# EAGLE library part STN1170 (library Goodies)
STN1170 44-Lead Plastic Thin Quad Flatpack – 10x10x1 mm Body, 2.00 mm Footprint Multiprotocol OBD to UART interpreter UNTESTED
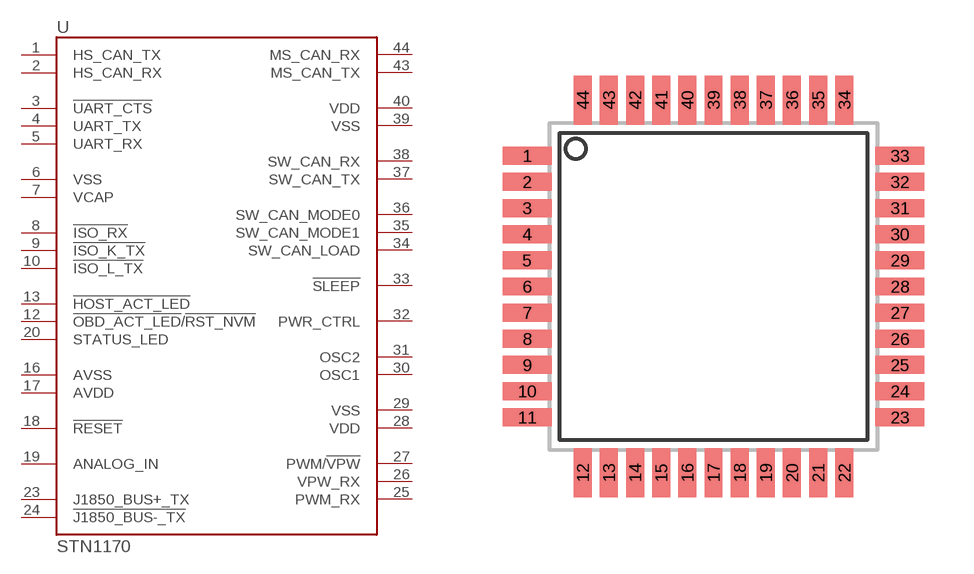
[diagram p3: symbol with the pads of TQFP44; footprint TQFP44]

Designator prefix U

## STN1170  [TQFP44]
1  HS_CAN_TX  in
2  HS_CAN_RX  in
3  !UART_CTS  in
4  UART_TX  out
5  UART_RX  in
6  VSS  pwr
7  VCAP  pwr
8  !ISO_RX  in
9  !ISO_K_TX  out
10  !ISO_L_TX  out
12  !OBD_ACT_LED!/!RST_NVM  out
13  !HOST_ACT_LED  out
16  AVSS  pwr
17  AVDD  pwr
18  !RESET  in
19  ANALOG_IN  in
20  STATUS_LED  out
23  J1850_BUS+_TX  out
24  !J1850_BUS-_TX  out
25  PWM_RX  in
26  VPW_RX  in
27  PWM/!VPW!  out
28  VDD  pwr
29  VSS  pwr
30  OSC1  in
31  OSC2  out
32  PWR_CTRL  out
33  !SLEEP  in
34  SW_CAN_LOAD  out
35  SW_CAN_MODE1  out
36  SW_CAN_MODE0  out
37  SW_CAN_TX  out
38  SW_CAN_RX  in
39  VSS  pwr
40  VDD  pwr
43  MS_CAN_TX  out
44  MS_CAN_RX  in

## Footprint TQFP44 (pad centres in mm)
TQFP44 TQFP (PT) Package 44-Lead Plastic Thin Quad Flatpack 10x10x1 mm Body, 2.00 mm Footprint UNTESTED
smd 1.5 x 0.55: 1 -5.7,4; 2 -5.7,3.2; 3 -5.7,2.4; 4 -5.7,1.6; 5 -5.7,0.8; 6 -5.7,0; 7 -5.7,-0.8; 8 -5.7,-1.6; 9 -5.7,-2.4; 10 -5.7,-3.2; 11 -5.7,-4; 23 5.7,-4; 24 5.7,-3.2; 25 5.7,-2.4; 26 5.7,-1.6; 27 5.7,-0.8; 28 5.7,0; 29 5.7,0.8; 30 5.7,1.6; 31 5.7,2.4; 32 5.7,3.2; 33 5.7,4
smd 0.55 x 1.5: 12 -4,-5.7; 13 -3.2,-5.7; 14 -2.4,-5.7; 15 -1.6,-5.7; 16 -0.8,-5.7; 17 0,-5.7; 18 0.8,-5.7; 19 1.6,-5.7; 20 2.4,-5.7; 21 3.2,-5.7; 22 4,-5.7; 34 4,5.7; 35 3.2,5.7; 36 2.4,5.7; 37 1.6,5.7; 38 0.8,5.7; 39 0,5.7; 40 -0.8,5.7; 41 -1.6,5.7; 42 -2.4,5.7; 43 -3.2,5.7; 44 -4,5.7